# Altium integrated library Silicon Labs Clocks and Oscillators.IntLib: 678 symbols (part 8 of 45)
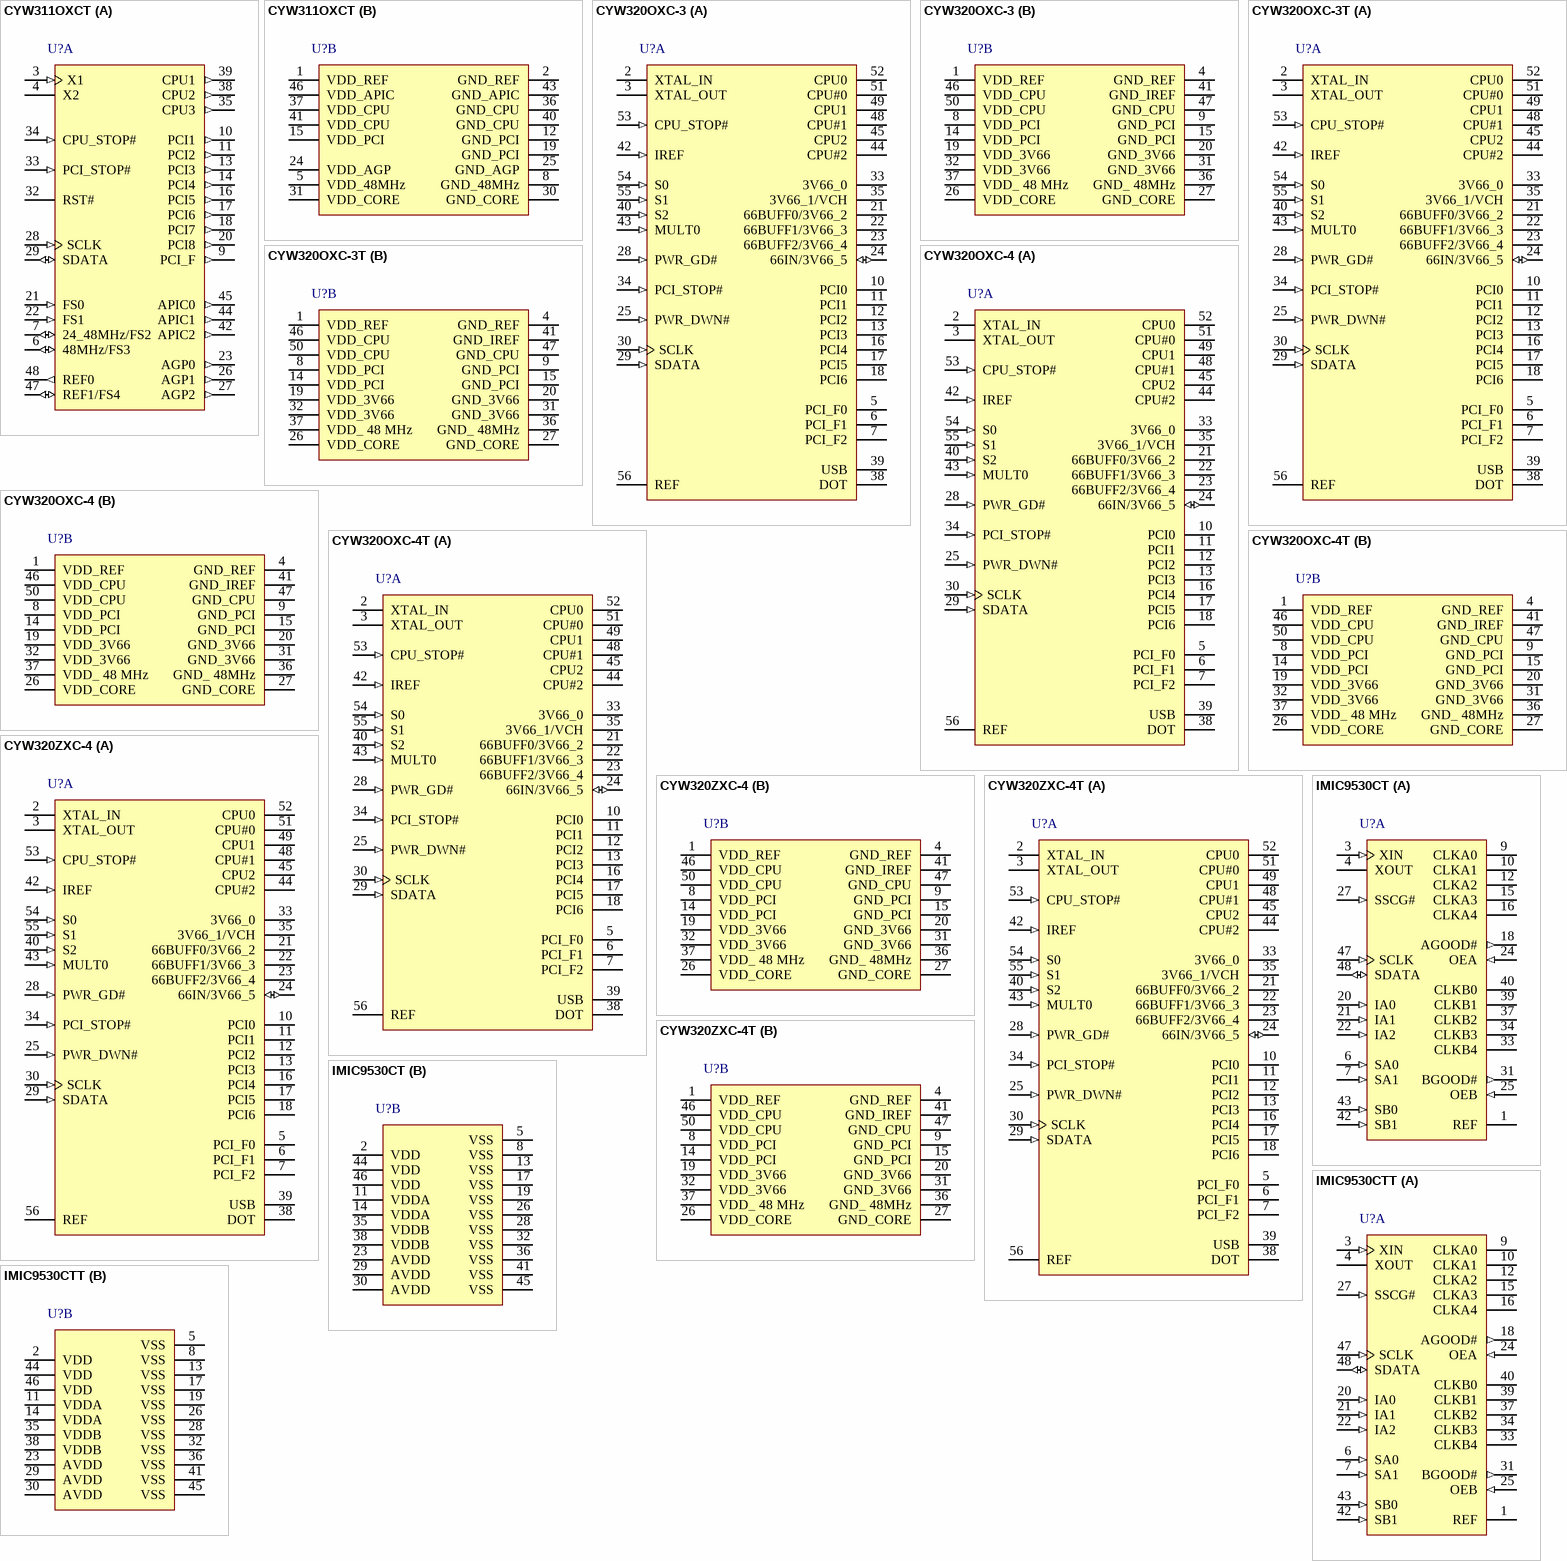
[diagram p51: symbols CYW311OXCT to IMIC9530CTT]

## CYW320OXC-4T
designator U?
Spread Spectrum Clock Synthesizer / Driver with Differential CPU Outputs, 3.3 V, 200 MHz Max Output, 0 to 70 degC, 56-pin SOP, Tape and Reel; Manufacturer: Silicon Labs; PartNumber: CYW320OXC-4T; Output Format: LVCMOS; Output Frequency (MHz): 14.318, 33, 48, 66, 100, 133, 200; Phase Jitter (RMS): > 1 ps; Reference Inputs: 1; VDD: 3.3 V; Sub-Family: Clock Generators; DatasheetVersion: Rev. *C; PackageReference: SSOP-56; PackageDescription: 56-Pin Shrink Small-Outline Package, Body 18.415 x 7.51 mm, Pitch 0.635 mm; Supplier 1: Digi-Key; Supplier Part Number 1: CYW320OXC-4T-ND; Supplier 2: Mouser; Supplier Part Number 2: 634-CYW320OXC-4T; Packing: Tape and Reel; Mounting Technology: Surface Mount; ComponentLink1Description: Manufacturer URL; ComponentLink1URL: http://www.silabs.com/; ComponentLink2Description: Datasheet; ComponentLink2URL: http://www.silabs.com/Support%20Documents/TechnicalDocs/W320-04.pdf; ComponentLink3Description: Package Specification; ComponentLink3URL: http://www.silabs.com/Support%20Documents/TechnicalDocs/W158.pdf
footprint SLAB-SSOP-56_N (SOP, 56-Leads, Body 18.5x7.6mm, Pitch 0.635mm, IPC Medium Density)
footprint SLAB-SSOP-56_L (SOP, 56-Leads, Body 18.5x7.6mm, Pitch 0.635mm, IPC High Density)
footprint SLAB-SSOP-56_M (SOP, 56-Leads, Body 18.5x7.6mm, Pitch 0.635mm, IPC Low Density)
part A pins: 2 XTAL_IN "14.318 MHz crystal input", 3 XTAL_OUT, 5 PCI_F0 (hiz) "33 MHz clocks divided down from 66Input or divided down from 3V66", 6 PCI_F1 (hiz) "33 MHz clocks divided down from 66Input or divided down from 3V66", 7 PCI_F2 (hiz) "33 MHz clocks divided down from 66Input or divided down from 3V66", 10 PCI0 (hiz) "PCI clock outputs divided down from 66Input or divided down from 3V66", 11 PCI1 (hiz) "PCI clock outputs divided down from 66Input or divided down from 3V66", 12 PCI2 (hiz) "PCI clock outputs divided down from 66Input or divided down from 3V66", 13 PCI3 (hiz) "PCI clock outputs divided down from 66Input or divided down from 3V66", 16 PCI4 (hiz) "PCI clock outputs divided down from 66Input or divided down from 3V66", 17 PCI5 (hiz) "PCI clock outputs divided down from 66Input or divided down from 3V66", 18 PCI6 (hiz) "PCI clock outputs divided down from 66Input or divided down from 3V66", 21 66BUFF0/3V66_2 (hiz), 22 66BUFF1/3V66_3 (hiz), 23 66BUFF2/3V66_4 (hiz), 24 66IN/3V66_5 (io), 25 PWR_DWN# (in) "3.3V LVTTL input for Power_Down# (active LOW)", 28 PWR_GD# (in) "3.3V LVTTL input is a level sensitive strobe used to determine when S[2:0] and MULTI0 inputs are valid and OK to be sampled (Active LOW). Once PWRGD# is sampled LOW, the status of this output will be ignored.", 29 SDATA (in) "SMBus compatible SDATA", 30 SCLK (in) "SMBus compatible Sclk", 33 3V66_0 (hiz) "3.3V 66 MHz clock output", 34 PCI_STOP# (in) "3.3V LVTTL input for PCI_STOP# (active LOW)", 35 3V66_1/VCH (hiz) "3.3V selectable through SMBus to be 66 MHz or 48 MHz", 38 DOT (hiz) "Fixed 48 MHz clock output", 39 USB (hiz) "Fixed 48 MHz clock output", 40 S2 (in) "Special 3.3V 3 level input for Mode selection", 42 IREF (in) "A precision resistor is attached to this pin which is connected to the internal current reference", 43 MULT0 (in) "3.3V LVTTL input for selecting the current multiplier for the CPU outputs", 44 CPU#2 (hiz) "Differential CPU clock outputs", 45 CPU2 (hiz) "Differential CPU clock outputs", 48 CPU#1 (hiz) "Differential CPU clock outputs", 49 CPU1 (hiz) "Differential CPU clock outputs", 51 CPU#0 (hiz) "Differential CPU clock outputs", 52 CPU0 (hiz) "Differential CPU clock outputs", 53 CPU_STOP# (in) "3.3V LVTTL input for CPU_STOP# (active LOW)", 54 S0 (in) "3.3V LVTTL inputs for CPU frequency selection", 55 S1 (in) "3.3V LVTTL inputs for CPU frequency selection", 56 REF (hiz) "3.3V 14.318 MHz clock output"
part B pins: 1 VDD_REF (power) "3.3V power supply for outputs", 4 GND_REF (power) "Ground for outputs", 8 VDD_PCI (power) "3.3V power supply for outputs", 9 GND_PCI (power) "Ground for outputs", 14 VDD_PCI (power) "3.3V power supply for outputs", 15 GND_PCI (power) "Ground for outputs", 19 VDD_3V66 (power) "3.3V power supply for outputs", 20 GND_3V66 (power) "Ground for outputs", 26 VDD_CORE (power) "3.3V power supply for PLL", 27 GND_CORE (power) "Ground for PLL", 31 GND_3V66 (power) "Ground for outputs", 32 VDD_3V66 (power) "3.3V power supply for outputs", 36 GND_ 48MHz (power) "Ground for outputs", 37 VDD_ 48 MHz (power) "3.3V power supply for 48 MHz", 41 GND_IREF (power) "Ground for outputs", 46 VDD_CPU (power) "3.3V power supply for outputs", 47 GND_CPU (power) "Ground for outputs", 50 VDD_CPU (power) "3.3V power supply for outputs"

## CYW320ZXC-4
designator U?
Spread Spectrum Clock Synthesizer / Driver with Differential CPU Outputs, 3.3 V, 200 MHz Max Output, 0 to 70 degC, 56-pin SOP; Manufacturer: Silicon Labs; PartNumber: CYW320ZXC-4; Output Format: LVCMOS; Output Frequency (MHz): 14.318, 33, 48, 66, 100, 133, 200; Reference Inputs: 1; VDD: 3.3 V; Sub-Family: Clock Generators; DatasheetVersion: Rev. *C; PackageReference: TSSOP-56; PackageDescription: 56-Pin Thin Shrink Small-Outline Package, Body 14 x 6.1 mm, Pitch 0.5 mm; Mounting Technology: Surface Mount; Code_JEDEC: MO-153; ComponentLink1Description: Manufacturer URL; ComponentLink1URL: http://www.silabs.com/; ComponentLink2Description: Datasheet; ComponentLink2URL: http://www.silabs.com/Support%20Documents/TechnicalDocs/W320-04.pdf; ComponentLink3Description: Package Specification; ComponentLink3URL: http://www.silabs.com/Support%20Documents/TechnicalDocs/CY28346-2.pdf
footprint SLAB-TSSOP-56_N (SOP, 56-Leads, Body 14.1x6.2mm, Pitch 0.5mm, IPC Medium Density)
footprint SLAB-TSSOP-56_L (SOP, 56-Leads, Body 14.1x6.2mm, Pitch 0.5mm, IPC High Density)
footprint SLAB-TSSOP-56_M (SOP, 56-Leads, Body 14.1x6.2mm, Pitch 0.5mm, IPC Low Density)
part A pins: 2 XTAL_IN "14.318 MHz crystal input", 3 XTAL_OUT, 5 PCI_F0 (hiz) "33 MHz clocks divided down from 66Input or divided down from 3V66", 6 PCI_F1 (hiz) "33 MHz clocks divided down from 66Input or divided down from 3V66", 7 PCI_F2 (hiz) "33 MHz clocks divided down from 66Input or divided down from 3V66", 10 PCI0 (hiz) "PCI clock outputs divided down from 66Input or divided down from 3V66", 11 PCI1 (hiz) "PCI clock outputs divided down from 66Input or divided down from 3V66", 12 PCI2 (hiz) "PCI clock outputs divided down from 66Input or divided down from 3V66", 13 PCI3 (hiz) "PCI clock outputs divided down from 66Input or divided down from 3V66", 16 PCI4 (hiz) "PCI clock outputs divided down from 66Input or divided down from 3V66", 17 PCI5 (hiz) "PCI clock outputs divided down from 66Input or divided down from 3V66", 18 PCI6 (hiz) "PCI clock outputs divided down from 66Input or divided down from 3V66", 21 66BUFF0/3V66_2 (hiz), 22 66BUFF1/3V66_3 (hiz), 23 66BUFF2/3V66_4 (hiz), 24 66IN/3V66_5 (io), 25 PWR_DWN# (in) "3.3V LVTTL input for Power_Down# (active LOW)", 28 PWR_GD# (in) "3.3V LVTTL input is a level sensitive strobe used to determine when S[2:0] and MULTI0 inputs are valid and OK to be sampled (Active LOW). Once PWRGD# is sampled LOW, the status of this output will be ignored.", 29 SDATA (in) "SMBus compatible SDATA", 30 SCLK (in) "SMBus compatible Sclk", 33 3V66_0 (hiz) "3.3V 66 MHz clock output", 34 PCI_STOP# (in) "3.3V LVTTL input for PCI_STOP# (active LOW)", 35 3V66_1/VCH (hiz) "3.3V selectable through SMBus to be 66 MHz or 48 MHz", 38 DOT (hiz) "Fixed 48 MHz clock output", 39 USB (hiz) "Fixed 48 MHz clock output", 40 S2 (in) "Special 3.3V 3 level input for Mode selection", 42 IREF (in) "A precision resistor is attached to this pin which is connected to the internal current reference", 43 MULT0 (in) "3.3V LVTTL input for selecting the current multiplier for the CPU outputs", 44 CPU#2 (hiz) "Differential CPU clock outputs", 45 CPU2 (hiz) "Differential CPU clock outputs", 48 CPU#1 (hiz) "Differential CPU clock outputs", 49 CPU1 (hiz) "Differential CPU clock outputs", 51 CPU#0 (hiz) "Differential CPU clock outputs", 52 CPU0 (hiz) "Differential CPU clock outputs", 53 CPU_STOP# (in) "3.3V LVTTL input for CPU_STOP# (active LOW)", 54 S0 (in) "3.3V LVTTL inputs for CPU frequency selection", 55 S1 (in) "3.3V LVTTL inputs for CPU frequency selection", 56 REF (hiz) "3.3V 14.318 MHz clock output"
part B pins: 1 VDD_REF (power) "3.3V power supply for outputs", 4 GND_REF (power) "Ground for outputs", 8 VDD_PCI (power) "3.3V power supply for outputs", 9 GND_PCI (power) "Ground for outputs", 14 VDD_PCI (power) "3.3V power supply for outputs", 15 GND_PCI (power) "Ground for outputs", 19 VDD_3V66 (power) "3.3V power supply for outputs", 20 GND_3V66 (power) "Ground for outputs", 26 VDD_CORE (power) "3.3V power supply for PLL", 27 GND_CORE (power) "Ground for PLL", 31 GND_3V66 (power) "Ground for outputs", 32 VDD_3V66 (power) "3.3V power supply for outputs", 36 GND_ 48MHz (power) "Ground for outputs", 37 VDD_ 48 MHz (power) "3.3V power supply for 48 MHz", 41 GND_IREF (power) "Ground for outputs", 46 VDD_CPU (power) "3.3V power supply for outputs", 47 GND_CPU (power) "Ground for outputs", 50 VDD_CPU (power) "3.3V power supply for outputs"

## CYW320ZXC-4T
designator U?
Spread Spectrum Clock Synthesizer / Driver with Differential CPU Outputs, 3.3 V, 200 MHz Max Output, 0 to 70 degC, 56-pin SOP, Tape and Reel; Manufacturer: Silicon Labs; PartNumber: CYW320ZXC-4T; Output Format: LVCMOS; Output Frequency (MHz): 14.318, 33, 48, 66, 100, 133, 200; Phase Jitter (RMS): > 1 ps; Reference Inputs: 1; VDD: 3.3 V; Sub-Family: Clock Generators; DatasheetVersion: Rev. *C; PackageReference: TSSOP-56; PackageDescription: 56-Pin Thin Shrink Small-Outline Package, Body 14 x 6.1 mm, Pitch 0.5 mm; Packing: Tape and Reel; Mounting Technology: Surface Mount; Code_JEDEC: MO-153; ComponentLink1Description: Manufacturer URL; ComponentLink1URL: http://www.silabs.com/; ComponentLink2Description: Datasheet; ComponentLink2URL: http://www.silabs.com/Support%20Documents/TechnicalDocs/W320-04.pdf; ComponentLink3Description: Package Specification; ComponentLink3URL: http://www.silabs.com/Support%20Documents/TechnicalDocs/CY28346-2.pdf
footprint SLAB-TSSOP-56_N (SOP, 56-Leads, Body 14.1x6.2mm, Pitch 0.5mm, IPC Medium Density)
footprint SLAB-TSSOP-56_L (SOP, 56-Leads, Body 14.1x6.2mm, Pitch 0.5mm, IPC High Density)
footprint SLAB-TSSOP-56_M (SOP, 56-Leads, Body 14.1x6.2mm, Pitch 0.5mm, IPC Low Density)
part A pins: 2 XTAL_IN "14.318 MHz crystal input", 3 XTAL_OUT, 5 PCI_F0 (hiz) "33 MHz clocks divided down from 66Input or divided down from 3V66", 6 PCI_F1 (hiz) "33 MHz clocks divided down from 66Input or divided down from 3V66", 7 PCI_F2 (hiz) "33 MHz clocks divided down from 66Input or divided down from 3V66", 10 PCI0 (hiz) "PCI clock outputs divided down from 66Input or divided down from 3V66", 11 PCI1 (hiz) "PCI clock outputs divided down from 66Input or divided down from 3V66", 12 PCI2 (hiz) "PCI clock outputs divided down from 66Input or divided down from 3V66", 13 PCI3 (hiz) "PCI clock outputs divided down from 66Input or divided down from 3V66", 16 PCI4 (hiz) "PCI clock outputs divided down from 66Input or divided down from 3V66", 17 PCI5 (hiz) "PCI clock outputs divided down from 66Input or divided down from 3V66", 18 PCI6 (hiz) "PCI clock outputs divided down from 66Input or divided down from 3V66", 21 66BUFF0/3V66_2 (hiz), 22 66BUFF1/3V66_3 (hiz), 23 66BUFF2/3V66_4 (hiz), 24 66IN/3V66_5 (io), 25 PWR_DWN# (in) "3.3V LVTTL input for Power_Down# (active LOW)", 28 PWR_GD# (in) "3.3V LVTTL input is a level sensitive strobe used to determine when S[2:0] and MULTI0 inputs are valid and OK to be sampled (Active LOW). Once PWRGD# is sampled LOW, the status of this output will be ignored.", 29 SDATA (in) "SMBus compatible SDATA", 30 SCLK (in) "SMBus compatible Sclk", 33 3V66_0 (hiz) "3.3V 66 MHz clock output", 34 PCI_STOP# (in) "3.3V LVTTL input for PCI_STOP# (active LOW)", 35 3V66_1/VCH (hiz) "3.3V selectable through SMBus to be 66 MHz or 48 MHz", 38 DOT (hiz) "Fixed 48 MHz clock output", 39 USB (hiz) "Fixed 48 MHz clock output", 40 S2 (in) "Special 3.3V 3 level input for Mode selection", 42 IREF (in) "A precision resistor is attached to this pin which is connected to the internal current reference", 43 MULT0 (in) "3.3V LVTTL input for selecting the current multiplier for the CPU outputs", 44 CPU#2 (hiz) "Differential CPU clock outputs", 45 CPU2 (hiz) "Differential CPU clock outputs", 48 CPU#1 (hiz) "Differential CPU clock outputs", 49 CPU1 (hiz) "Differential CPU clock outputs", 51 CPU#0 (hiz) "Differential CPU clock outputs", 52 CPU0 (hiz) "Differential CPU clock outputs", 53 CPU_STOP# (in) "3.3V LVTTL input for CPU_STOP# (active LOW)", 54 S0 (in) "3.3V LVTTL inputs for CPU frequency selection", 55 S1 (in) "3.3V LVTTL inputs for CPU frequency selection", 56 REF (hiz) "3.3V 14.318 MHz clock output"
part B pins: 1 VDD_REF (power) "3.3V power supply for outputs", 4 GND_REF (power) "Ground for outputs", 8 VDD_PCI (power) "3.3V power supply for outputs", 9 GND_PCI (power) "Ground for outputs", 14 VDD_PCI (power) "3.3V power supply for outputs", 15 GND_PCI (power) "Ground for outputs", 19 VDD_3V66 (power) "3.3V power supply for outputs", 20 GND_3V66 (power) "Ground for outputs", 26 VDD_CORE (power) "3.3V power supply for PLL", 27 GND_CORE (power) "Ground for PLL", 31 GND_3V66 (power) "Ground for outputs", 32 VDD_3V66 (power) "3.3V power supply for outputs", 36 GND_ 48MHz (power) "Ground for outputs", 37 VDD_ 48 MHz (power) "3.3V power supply for 48 MHz", 41 GND_IREF (power) "Ground for outputs", 46 VDD_CPU (power) "3.3V power supply for outputs", 47 GND_CPU (power) "Ground for outputs", 50 VDD_CPU (power) "3.3V power supply for outputs"

## IMIC9530CT
designator U?
PCIX I/O System Clock Generator with EMI Control Features, 3.3 V, 25 to 133.3 MHz Output, 0 to 70 degC, 48-pin SOP; Manufacturer: Silicon Labs; PartNumber: IMIC9530CT; Output Format: LVCMOS; Reference Inputs: 1; VDD: 3.3 V; Sub-Family: Clock Generators; DatasheetVersion: Rev. *C; PackageReference: TSSOP-48; PackageDescription: 48-Pin Thin Shrink Small-Outline Package, Body 12.5 x 6.1 mm, Pitch 0.5 mm; Output Frequency (MHz): 25 to 133.3; Mounting Technology: Surface Mount; Code_JEDEC: MO-153; ComponentLink1Description: Manufacturer URL; ComponentLink1URL: http://www.silabs.com/; ComponentLink2Description: Datasheet; ComponentLink2URL: http://www.silabs.com/Support%20Documents/TechnicalDocs/C9530.pdf; ComponentLink3Description: Package Specification; ComponentLink3URL: http://www.silabs.com/Support%20Documents/TechnicalDocs/C9530.pdf
footprint SLAB-TSSOP-48_N (SOP, 48-Leads, Body 12.6x6.2mm, Pitch 0.5mm, IPC Medium Density)
footprint SLAB-TSSOP-48_L (SOP, 48-Leads, Body 12.6x6.2mm, Pitch 0.5mm, IPC High Density)
footprint SLAB-TSSOP-48_M (SOP, 48-Leads, Body 12.6x6.2mm, Pitch 0.5mm, IPC Low Density)
part A pins: 1 REF (hiz) "Buffered inverted outputs of the signal applied at Xin, typically 33.33 or 25.0 MHz", 3 XIN (in) "Crystal Buffer input pin. Connects to a crystal, or an external clock source. Serves as input clock TCLK, in Test mode.", 4 XOUT "Crystal Buffer output pin. Connects to a crystal only. When a Can Oscillator is used or in Test mode, this pin is kept unconnected.", 6 SA0 (in) "Clock Bank A selection bits. These control the clock frequency that will be present on the outputs of the A bank of buffers. See Table 1 for frequency codes and selection values.", 7 SA1 (in) "Clock Bank A selection bits. These control the clock frequency that will be present on the outputs of the A bank of buffers. See Table 1 for frequency codes and selection values.", 9 CLKA0 (hiz) "A bank of five XINx1, XINx2, XINx3 and XINx4 output clocks.", 10 CLKA1 (hiz) "A bank of five XINx1, XINx2, XINx3 and XINx4 output clocks.", 12 CLKA2 (hiz) "A bank of five XINx1, XINx2, XINx3 and XINx4 output clocks.", 15 CLKA3 (hiz) "A bank of five XINx1, XINx2, XINx3 and XINx4 output clocks.", 16 CLKA4 (hiz) "A bank of five XINx1, XINx2, XINx3 and XINx4 output clocks.", 18 AGOOD# (out) "When this output signal is a logic low level, it indicates that the output clocks of the A bank are locked to the input reference clock. This output is latched.", 20 IA0 (in), 21 IA1 (in), 22 IA2 (in), 24 OEA (in) "Output Enable for clock bank A. Causes the CLKA output clocks to be in a three-state condition when driven to a logic low level.", 25 OEB (in) "Output Enable for clock bank B. Causes the CLKB output clocks to be in a three-state condition when driven to a logic low level.", 27 SSCG# (in) "Enables Spread Spectrum clock modulation when at a logic low level, see Spread Spectrum Clocking on page 6.", 31 BGOOD# (out) "When this output signal is at a logic low level, it indicates that the output clocks of the B bank are locked to the input reference clock. This output is latched.", 33 CLKB4 (hiz) "A bank of five XINx1, XINx2, XINx3 and XINx4 output clocks.", 34 CLKB3 (hiz) "A bank of five XINx1, XINx2, XINx3 and XINx4 output clocks.", 37 CLKB2 (hiz) "A bank of five XINx1, XINx2, XINx3 and XINx4 output clocks.", 39 CLKB1 (hiz) "A bank of five XINx1, XINx2, XINx3 and XINx4 output clocks.", 40 CLKB0 (hiz) "A bank of five XINx1, XINx2, XINx3 and XINx4 output clocks.", 42 SB1 (in), 43 SB0 (in), 47 SCLK (in) "Clock for the internal SMBus circuitry.", 48 SDATA (io) "Data for the internal SMBus circuitry."
part B pins: 2 VDD (power) "Power supply for internal Core logic.", 5 VSS (power) "Ground pins for the device.", 8 VSS (power) "Ground pins for the device.", 11 VDDA (power) "3.3V common power supply pin for Bank A PCI clocks CLKA.", 13 VSS (power) "Ground pins for the device.", 14 VDDA (power) "3.3V common power supply pin for Bank A PCI clocks CLKA.", 17 VSS (power) "Ground pins for the device.", 19 VSS (power) "Ground pins for the device.", 23 AVDD (power) "Power for internal analog circuitry. This supply should have a separately decoupled current source from VDD.", 26 VSS (power) "Ground pins for the device.", 28 VSS (power) "Ground pins for the device.", 29 AVDD (power) "Power for internal analog circuitry. This supply should have a separately decoupled current source from VDD.", 30 AVDD (power) "Power for internal analog circuitry. This supply should have a separately decoupled current source from VDD.", 32 VSS (power) "Ground pins for the device.", 35 VDDB (power) "3.3V common power supply pin for Bank B PCI clocks CLKB.", 36 VSS (power) "Ground pins for the device.", 38 VDDB (power) "3.3V common power supply pin for Bank B PCI clocks CLKB.", 41 VSS (power) "Ground pins for the device.", 44 VDD (power) "Power supply for internal Core logic.", 45 VSS (power) "Ground pins for the device.", 46 VDD (power) "Power supply for internal Core logic."

## IMIC9530CTT
designator U?
PCIX I/O System Clock Generator with EMI Control Features, 3.3 V, 25 to 133.3 MHz Output, 0 to 70 degC, 48-pin SOP, Tape and Reel; Manufacturer: Silicon Labs; PartNumber: IMIC9530CTT; Output Format: LVCMOS; Phase Jitter (RMS): > 1 ps; Reference Inputs: 1; VDD: 3.3 V; Sub-Family: Clock Generators; DatasheetVersion: Rev. *C; PackageReference: TSSOP-48; PackageDescription: 48-Pin Thin Shrink Small-Outline Package, Body 12.5 x 6.1 mm, Pitch 0.5 mm; Output Frequency (MHz): 25 to 133.3; Packing: Tape and Reel; Mounting Technology: Surface Mount; Code_JEDEC: MO-153; ComponentLink1Description: Manufacturer URL; ComponentLink1URL: http://www.silabs.com/; ComponentLink2Description: Datasheet; ComponentLink2URL: http://www.silabs.com/Support%20Documents/TechnicalDocs/C9530.pdf; ComponentLink3Description: Package Specification; ComponentLink3URL: http://www.silabs.com/Support%20Documents/TechnicalDocs/C9530.pdf
footprint SLAB-TSSOP-48_N (SOP, 48-Leads, Body 12.6x6.2mm, Pitch 0.5mm, IPC Medium Density)
footprint SLAB-TSSOP-48_L (SOP, 48-Leads, Body 12.6x6.2mm, Pitch 0.5mm, IPC High Density)
footprint SLAB-TSSOP-48_M (SOP, 48-Leads, Body 12.6x6.2mm, Pitch 0.5mm, IPC Low Density)
part A pins: 1 REF (hiz) "Buffered inverted outputs of the signal applied at Xin, typically 33.33 or 25.0 MHz", 3 XIN (in) "Crystal Buffer input pin. Connects to a crystal, or an external clock source. Serves as input clock TCLK, in Test mode.", 4 XOUT "Crystal Buffer output pin. Connects to a crystal only. When a Can Oscillator is used or in Test mode, this pin is kept unconnected.", 6 SA0 (in) "Clock Bank A selection bits. These control the clock frequency that will be present on the outputs of the A bank of buffers. See Table 1 for frequency codes and selection values.", 7 SA1 (in) "Clock Bank A selection bits. These control the clock frequency that will be present on the outputs of the A bank of buffers. See Table 1 for frequency codes and selection values.", 9 CLKA0 (hiz) "A bank of five XINx1, XINx2, XINx3 and XINx4 output clocks.", 10 CLKA1 (hiz) "A bank of five XINx1, XINx2, XINx3 and XINx4 output clocks.", 12 CLKA2 (hiz) "A bank of five XINx1, XINx2, XINx3 and XINx4 output clocks.", 15 CLKA3 (hiz) "A bank of five XINx1, XINx2, XINx3 and XINx4 output clocks.", 16 CLKA4 (hiz) "A bank of five XINx1, XINx2, XINx3 and XINx4 output clocks.", 18 AGOOD# (out) "When this output signal is a logic low level, it indicates that the output clocks of the A bank are locked to the input reference clock. This output is latched.", 20 IA0 (in), 21 IA1 (in), 22 IA2 (in), 24 OEA (in) "Output Enable for clock bank A. Causes the CLKA output clocks to be in a three-state condition when driven to a logic low level.", 25 OEB (in) "Output Enable for clock bank B. Causes the CLKB output clocks to be in a three-state condition when driven to a logic low level.", 27 SSCG# (in) "Enables Spread Spectrum clock modulation when at a logic low level, see Spread Spectrum Clocking on page 6.", 31 BGOOD# (out) "When this output signal is at a logic low level, it indicates that the output clocks of the B bank are locked to the input reference clock. This output is latched.", 33 CLKB4 (hiz) "A bank of five XINx1, XINx2, XINx3 and XINx4 output clocks.", 34 CLKB3 (hiz) "A bank of five XINx1, XINx2, XINx3 and XINx4 output clocks.", 37 CLKB2 (hiz) "A bank of five XINx1, XINx2, XINx3 and XINx4 output clocks.", 39 CLKB1 (hiz) "A bank of five XINx1, XINx2, XINx3 and XINx4 output clocks.", 40 CLKB0 (hiz) "A bank of five XINx1, XINx2, XINx3 and XINx4 output clocks.", 42 SB1 (in), 43 SB0 (in), 47 SCLK (in) "Clock for the internal SMBus circuitry.", 48 SDATA (io) "Data for the internal SMBus circuitry."
part B pins: 2 VDD (power) "Power supply for internal Core logic.", 5 VSS (power) "Ground pins for the device.", 8 VSS (power) "Ground pins for the device.", 11 VDDA (power) "3.3V common power supply pin for Bank A PCI clocks CLKA.", 13 VSS (power) "Ground pins for the device.", 14 VDDA (power) "3.3V common power supply pin for Bank A PCI clocks CLKA.", 17 VSS (power) "Ground pins for the device.", 19 VSS (power) "Ground pins for the device.", 23 AVDD (power) "Power for internal analog circuitry. This supply should have a separately decoupled current source from VDD.", 26 VSS (power) "Ground pins for the device.", 28 VSS (power) "Ground pins for the device.", 29 AVDD (power) "Power for internal analog circuitry. This supply should have a separately decoupled current source from VDD.", 30 AVDD (power) "Power for internal analog circuitry. This supply should have a separately decoupled current source from VDD.", 32 VSS (power) "Ground pins for the device.", 35 VDDB (power) "3.3V common power supply pin for Bank B PCI clocks CLKB.", 36 VSS (power) "Ground pins for the device.", 38 VDDB (power) "3.3V common power supply pin for Bank B PCI clocks CLKB.", 41 VSS (power) "Ground pins for the device.", 44 VDD (power) "Power supply for internal Core logic.", 45 VSS (power) "Ground pins for the device.", 46 VDD (power) "Power supply for internal Core logic."

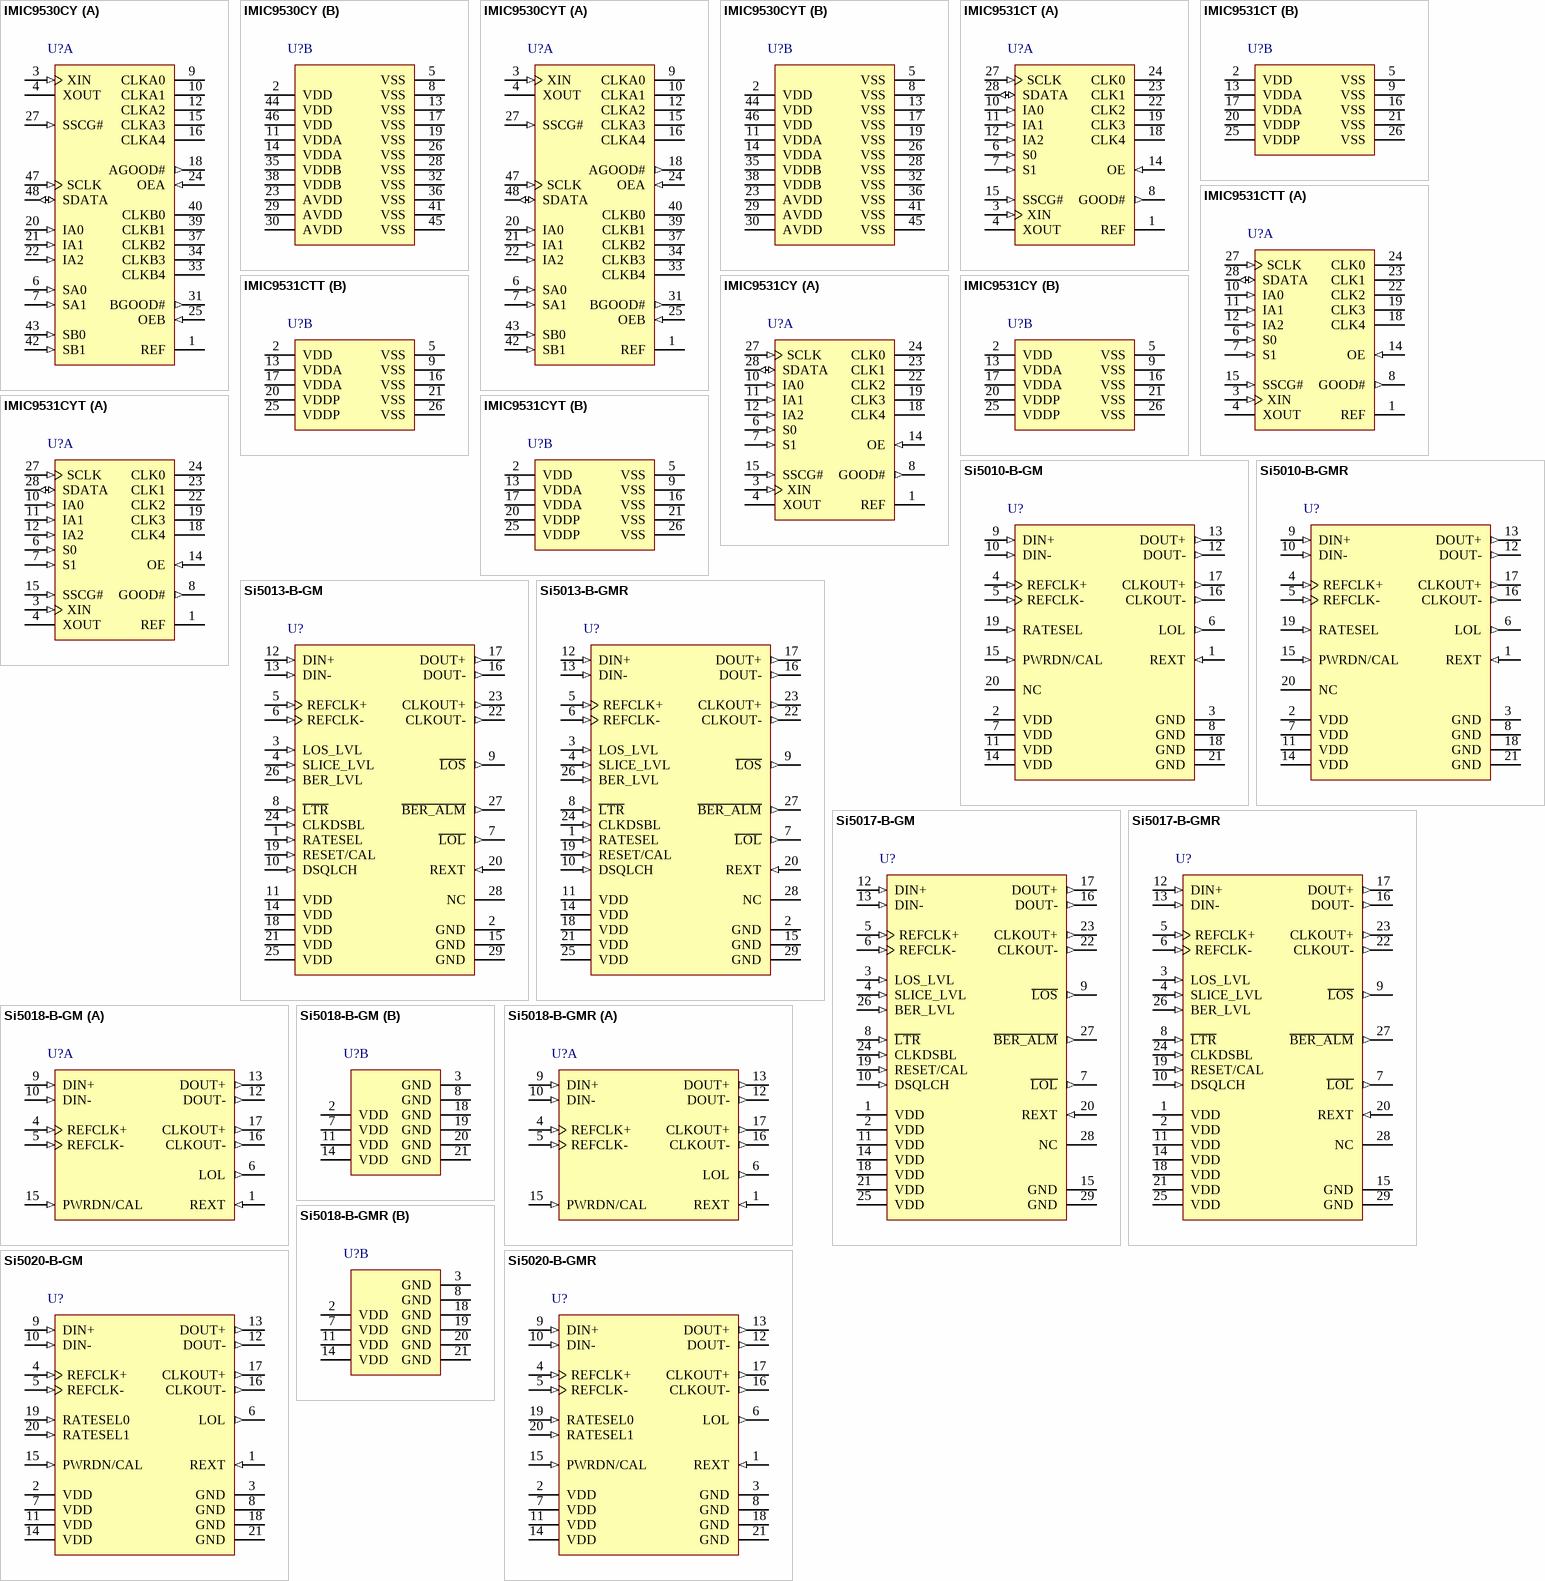
[diagram p8: symbols IMIC9530CY to Si5020-B-GMR]

## IMIC9530CY
designator U?
PCIX I/O System Clock Generator with EMI Control Features, 3.3 V, 25 to 133.3 MHz Output, 0 to 70 degC, 48-pin SOP; Manufacturer: Silicon Labs; PartNumber: IMIC9530CY; Output Format: LVCMOS; Reference Inputs: 1; VDD: 3.3 V; Sub-Family: Clock Generators; DatasheetVersion: Rev. *C; PackageReference: SSOP-48; PackageDescription: 48-Pin Shrink Small-Outline Package, Body 15.875 x 7.51 mm, Pitch 0.635 mm; Output Frequency (MHz): 25 to 133.3; Mounting Technology: Surface Mount; ComponentLink1Description: Manufacturer URL; ComponentLink1URL: http://www.silabs.com/; ComponentLink2Description: Datasheet; ComponentLink2URL: http://www.silabs.com/Support%20Documents/TechnicalDocs/C9530.pdf; ComponentLink3Description: Package Specification; ComponentLink3URL: http://www.silabs.com/Support%20Documents/TechnicalDocs/W255.pdf
footprint SLAB-SSOP-48_N (SOP, 48-Leads, Body 16x7.6mm, Pitch 0.635mm, IPC Medium Density)
footprint SLAB-SSOP-48_L (SOP, 48-Leads, Body 16x7.6mm, Pitch 0.635mm, IPC High Density)
footprint SLAB-SSOP-48_M (SOP, 48-Leads, Body 16x7.6mm, Pitch 0.635mm, IPC Low Density)
part A pins: 1 REF (hiz) "Buffered inverted outputs of the signal applied at Xin, typically 33.33 or 25.0 MHz", 3 XIN (in) "Crystal Buffer input pin. Connects to a crystal, or an external clock source. Serves as input clock TCLK, in Test mode.", 4 XOUT "Crystal Buffer output pin. Connects to a crystal only. When a Can Oscillator is used or in Test mode, this pin is kept unconnected.", 6 SA0 (in) "Clock Bank A selection bits. These control the clock frequency that will be present on the outputs of the A bank of buffers. See Table 1 for frequency codes and selection values.", 7 SA1 (in) "Clock Bank A selection bits. These control the clock frequency that will be present on the outputs of the A bank of buffers. See Table 1 for frequency codes and selection values.", 9 CLKA0 (hiz) "A bank of five XINx1, XINx2, XINx3 and XINx4 output clocks.", 10 CLKA1 (hiz) "A bank of five XINx1, XINx2, XINx3 and XINx4 output clocks.", 12 CLKA2 (hiz) "A bank of five XINx1, XINx2, XINx3 and XINx4 output clocks.", 15 CLKA3 (hiz) "A bank of five XINx1, XINx2, XINx3 and XINx4 output clocks.", 16 CLKA4 (hiz) "A bank of five XINx1, XINx2, XINx3 and XINx4 output clocks.", 18 AGOOD# (out) "When this output signal is a logic low level, it indicates that the output clocks of the A bank are locked to the input reference clock. This output is latched.", 20 IA0 (in), 21 IA1 (in), 22 IA2 (in), 24 OEA (in) "Output Enable for clock bank A. Causes the CLKA output clocks to be in a three-state condition when driven to a logic low level.", 25 OEB (in) "Output Enable for clock bank B. Causes the CLKB output clocks to be in a three-state condition when driven to a logic low level.", 27 SSCG# (in) "Enables Spread Spectrum clock modulation when at a logic low level, see Spread Spectrum Clocking on page 6.", 31 BGOOD# (out) "When this output signal is at a logic low level, it indicates that the output clocks of the B bank are locked to the input reference clock. This output is latched.", 33 CLKB4 (hiz) "A bank of five XINx1, XINx2, XINx3 and XINx4 output clocks.", 34 CLKB3 (hiz) "A bank of five XINx1, XINx2, XINx3 and XINx4 output clocks.", 37 CLKB2 (hiz) "A bank of five XINx1, XINx2, XINx3 and XINx4 output clocks.", 39 CLKB1 (hiz) "A bank of five XINx1, XINx2, XINx3 and XINx4 output clocks.", 40 CLKB0 (hiz) "A bank of five XINx1, XINx2, XINx3 and XINx4 output clocks.", 42 SB1 (in), 43 SB0 (in), 47 SCLK (in) "Clock for the internal SMBus circuitry.", 48 SDATA (io) "Data for the internal SMBus circuitry."
part B pins: 2 VDD (power) "Power supply for internal Core logic.", 5 VSS (power) "Ground pins for the device.", 8 VSS (power) "Ground pins for the device.", 11 VDDA (power) "3.3V common power supply pin for Bank A PCI clocks CLKA.", 13 VSS (power) "Ground pins for the device.", 14 VDDA (power) "3.3V common power supply pin for Bank A PCI clocks CLKA.", 17 VSS (power) "Ground pins for the device.", 19 VSS (power) "Ground pins for the device.", 23 AVDD (power) "Power for internal analog circuitry. This supply should have a separately decoupled current source from VDD.", 26 VSS (power) "Ground pins for the device.", 28 VSS (power) "Ground pins for the device.", 29 AVDD (power) "Power for internal analog circuitry. This supply should have a separately decoupled current source from VDD.", 30 AVDD (power) "Power for internal analog circuitry. This supply should have a separately decoupled current source from VDD.", 32 VSS (power) "Ground pins for the device.", 35 VDDB (power) "3.3V common power supply pin for Bank B PCI clocks CLKB.", 36 VSS (power) "Ground pins for the device.", 38 VDDB (power) "3.3V common power supply pin for Bank B PCI clocks CLKB.", 41 VSS (power) "Ground pins for the device.", 44 VDD (power) "Power supply for internal Core logic.", 45 VSS (power) "Ground pins for the device.", 46 VDD (power) "Power supply for internal Core logic."

## IMIC9530CYT
designator U?
PCIX I/O System Clock Generator with EMI Control Features, 3.3 V, 25 to 133.3 MHz Output, 0 to 70 degC, 48-pin SOP, Tape and Reel; Manufacturer: Silicon Labs; PartNumber: IMIC9530CYT; Output Format: LVCMOS; Phase Jitter (RMS): > 1 ps; Reference Inputs: 1; VDD: 3.3 V; Sub-Family: Clock Generators; DatasheetVersion: Rev. *C; PackageReference: SSOP-48; PackageDescription: 48-Pin Shrink Small-Outline Package, Body 15.875 x 7.51 mm, Pitch 0.635 mm; Output Frequency (MHz): 25 to 133.3; Packing: Tape and Reel; Mounting Technology: Surface Mount; ComponentLink1Description: Manufacturer URL; ComponentLink1URL: http://www.silabs.com/; ComponentLink2Description: Datasheet; ComponentLink2URL: http://www.silabs.com/Support%20Documents/TechnicalDocs/C9530.pdf; ComponentLink3Description: Package Specification; ComponentLink3URL: http://www.silabs.com/Support%20Documents/TechnicalDocs/W255.pdf
footprint SLAB-SSOP-48_N (SOP, 48-Leads, Body 16x7.6mm, Pitch 0.635mm, IPC Medium Density)
footprint SLAB-SSOP-48_L (SOP, 48-Leads, Body 16x7.6mm, Pitch 0.635mm, IPC High Density)
footprint SLAB-SSOP-48_M (SOP, 48-Leads, Body 16x7.6mm, Pitch 0.635mm, IPC Low Density)
part A pins: 1 REF (hiz) "Buffered inverted outputs of the signal applied at Xin, typically 33.33 or 25.0 MHz", 3 XIN (in) "Crystal Buffer input pin. Connects to a crystal, or an external clock source. Serves as input clock TCLK, in Test mode.", 4 XOUT "Crystal Buffer output pin. Connects to a crystal only. When a Can Oscillator is used or in Test mode, this pin is kept unconnected.", 6 SA0 (in) "Clock Bank A selection bits. These control the clock frequency that will be present on the outputs of the A bank of buffers. See Table 1 for frequency codes and selection values.", 7 SA1 (in) "Clock Bank A selection bits. These control the clock frequency that will be present on the outputs of the A bank of buffers. See Table 1 for frequency codes and selection values.", 9 CLKA0 (hiz) "A bank of five XINx1, XINx2, XINx3 and XINx4 output clocks.", 10 CLKA1 (hiz) "A bank of five XINx1, XINx2, XINx3 and XINx4 output clocks.", 12 CLKA2 (hiz) "A bank of five XINx1, XINx2, XINx3 and XINx4 output clocks.", 15 CLKA3 (hiz) "A bank of five XINx1, XINx2, XINx3 and XINx4 output clocks.", 16 CLKA4 (hiz) "A bank of five XINx1, XINx2, XINx3 and XINx4 output clocks.", 18 AGOOD# (out) "When this output signal is a logic low level, it indicates that the output clocks of the A bank are locked to the input reference clock. This output is latched.", 20 IA0 (in), 21 IA1 (in), 22 IA2 (in), 24 OEA (in) "Output Enable for clock bank A. Causes the CLKA output clocks to be in a three-state condition when driven to a logic low level.", 25 OEB (in) "Output Enable for clock bank B. Causes the CLKB output clocks to be in a three-state condition when driven to a logic low level.", 27 SSCG# (in) "Enables Spread Spectrum clock modulation when at a logic low level, see Spread Spectrum Clocking on page 6.", 31 BGOOD# (out) "When this output signal is at a logic low level, it indicates that the output clocks of the B bank are locked to the input reference clock. This output is latched.", 33 CLKB4 (hiz) "A bank of five XINx1, XINx2, XINx3 and XINx4 output clocks.", 34 CLKB3 (hiz) "A bank of five XINx1, XINx2, XINx3 and XINx4 output clocks.", 37 CLKB2 (hiz) "A bank of five XINx1, XINx2, XINx3 and XINx4 output clocks.", 39 CLKB1 (hiz) "A bank of five XINx1, XINx2, XINx3 and XINx4 output clocks.", 40 CLKB0 (hiz) "A bank of five XINx1, XINx2, XINx3 and XINx4 output clocks.", 42 SB1 (in), 43 SB0 (in), 47 SCLK (in) "Clock for the internal SMBus circuitry.", 48 SDATA (io) "Data for the internal SMBus circuitry."
part B pins: 2 VDD (power) "Power supply for internal Core logic.", 5 VSS (power) "Ground pins for the device.", 8 VSS (power) "Ground pins for the device.", 11 VDDA (power) "3.3V common power supply pin for Bank A PCI clocks CLKA.", 13 VSS (power) "Ground pins for the device.", 14 VDDA (power) "3.3V common power supply pin for Bank A PCI clocks CLKA.", 17 VSS (power) "Ground pins for the device.", 19 VSS (power) "Ground pins for the device.", 23 AVDD (power) "Power for internal analog circuitry. This supply should have a separately decoupled current source from VDD.", 26 VSS (power) "Ground pins for the device.", 28 VSS (power) "Ground pins for the device.", 29 AVDD (power) "Power for internal analog circuitry. This supply should have a separately decoupled current source from VDD.", 30 AVDD (power) "Power for internal analog circuitry. This supply should have a separately decoupled current source from VDD.", 32 VSS (power) "Ground pins for the device.", 35 VDDB (power) "3.3V common power supply pin for Bank B PCI clocks CLKB.", 36 VSS (power) "Ground pins for the device.", 38 VDDB (power) "3.3V common power supply pin for Bank B PCI clocks CLKB.", 41 VSS (power) "Ground pins for the device.", 44 VDD (power) "Power supply for internal Core logic.", 45 VSS (power) "Ground pins for the device.", 46 VDD (power) "Power supply for internal Core logic."

## IMIC9531CT
designator U?
PCIX I/O System Clock Generator with EMI Control Features, 3.3 V, 25 to 133.3 MHz Output, 0 to 70 degC, 28-pin SOP; Manufacturer: Silicon Labs; PartNumber: IMIC9531CT; Output Format: LVCMOS; Reference Inputs: 1; VDD: 3.3 V; Sub-Family: Clock Generators; DatasheetVersion: Rev. *E; PackageReference: TSSOP-28; PackageDescription: 28-Pin Thin Shrink Small-Outline Package, Body 9.7 x 4.4 mm, Pitch 0.65 mm; Output Frequency (MHz): 25 to 133.3; Mounting Technology: Surface Mount; Code_JEDEC: MO-153; ComponentLink1Description: Manufacturer URL; ComponentLink1URL: http://www.silabs.com/; ComponentLink2Description: Datasheet; ComponentLink2URL: http://www.silabs.com/Support%20Documents/TechnicalDocs/C9531.pdf; ComponentLink3Description: Package Specification; ComponentLink3URL: http://www.silabs.com/Support%20Documents/TechnicalDocs/CY2SSTV855.pdf
footprint SLAB-TSSOP-28_N (SOP, 28-Leads, Body 9.8x4.5mm, Pitch 0.65mm, IPC Medium Density)
footprint SLAB-TSSOP-28_L (SOP, 28-Leads, Body 9.8x4.5mm, Pitch 0.65mm, IPC High Density)
footprint SLAB-TSSOP-28_M (SOP, 28-Leads, Body 9.8x4.5mm, Pitch 0.65mm, IPC Low Density)
part A pins: 1 REF (hiz) "Buffered inverted outputs of the signal applied at Xin, typically 33.33 or 25.0 MHz.", 3 XIN (in) "Crystal Buffer Input Pin. Connects to a crystal, or an external clock source. Serves as input clock TCLK, in Test mode.", 4 XOUT "Crystal Buffer Output Pin. Connects to a crystal only. When a Can Oscillator is used or in test mode, this pin is kept unconnected.", 6 S0 (in) "Clock Bank Selection Bits. These control the clock frequency that will be present on the outputs of the bank of buffers. See table on page one for frequency codes and selection values.", 7 S1 (in) "Clock Bank Selection Bits. These control the clock frequency that will be present on the outputs of the bank of buffers. See table on page one for frequency codes and selection values.", 8 GOOD# (out) "When his output signal is a logic low level, it indicates that the output clocks of the bank are locked to the input reference clock. This output is latched.", 10 IA0 (in) "SMBus Address Selection Input Pins. See Table 3 on page 3.", 11 IA1 (in) "SMBus Address Selection Input Pins. See Table 3 on page 3.", 12 IA2 (in) "SMBus Address Selection Input Pins. See Table 3 on page 3.", 14 OE (in) "Output Enable for Clock Bank. Causes the CLK (0:4) output clocks to be in a three-state condition when driven to a logic low level.", 15 SSCG# (in) "Spread Spectrum Clock Generator. Enables Spread Spectrum clock modulation when at a logic low level, see Spread Spectrum Clocking on page 6.", 18 CLK4 (hiz) "A bank of five XINx1, XINx2, XINx3 and XINx4 output clocks.", 19 CLK3 (hiz) "A bank of five XINx1, XINx2, XINx3 and XINx4 output clocks.", 22 CLK2 (hiz) "A bank of five XINx1, XINx2, XINx3 and XINx4 output clocks.", 23 CLK1 (hiz) "A bank of five XINx1, XINx2, XINx3 and XINx4 output clocks.", 24 CLK0 (hiz) "A bank of five XINx1, XINx2, XINx3 and XINx4 output clocks.", 27 SCLK (in) "Clock for the Internal SMBus Circuitry. See Table 3 on page 3.", 28 SDATA (io) "Data for the Internal SMBus Circuitry. See Table 3 on page 3."
part B pins: 2 VDD (power) "Power supply for internal core logic.", 5 VSS (power) "Ground pins for the device.", 9 VSS (power) "Ground pins for the device.", 13 VDDA (power) "Power for Internal Analog Circuitry. This supply should have a separately decoupled current source from VDD.", 16 VSS (power) "Ground pins for the device.", 17 VDDA (power) "Power for Internal Analog Circuitry. This supply should have a separately decoupled current source from VDD.", 20 VDDP (power) "3.3V common power supply pin for all PCI clocks CLK (0:4).", 21 VSS (power) "Ground pins for the device.", 25 VDDP (power) "3.3V common power supply pin for all PCI clocks CLK (0:4).", 26 VSS (power) "Ground pins for the device."

## IMIC9531CTT
designator U?
PCIX I/O System Clock Generator with EMI Control Features, 3.3 V, 25 to 133.3 MHz Output, 0 to 70 degC, 28-pin SOP, Tape and Reel; Manufacturer: Silicon Labs; PartNumber: IMIC9531CTT; Output Format: LVCMOS; Phase Jitter (RMS): > 1 ps; Reference Inputs: 1; VDD: 3.3 V; Sub-Family: Clock Generators; DatasheetVersion: Rev. *E; PackageReference: TSSOP-28; PackageDescription: 28-Pin Thin Shrink Small-Outline Package, Body 9.7 x 4.4 mm, Pitch 0.65 mm; Output Frequency (MHz): 25 to 133.3; Packing: Tape and Reel; Mounting Technology: Surface Mount; Code_JEDEC: MO-153; ComponentLink1Description: Manufacturer URL; ComponentLink1URL: http://www.silabs.com/; ComponentLink2Description: Datasheet; ComponentLink2URL: http://www.silabs.com/Support%20Documents/TechnicalDocs/C9531.pdf; ComponentLink3Description: Package Specification; ComponentLink3URL: http://www.silabs.com/Support%20Documents/TechnicalDocs/CY2SSTV855.pdf
footprint SLAB-TSSOP-28_N (SOP, 28-Leads, Body 9.8x4.5mm, Pitch 0.65mm, IPC Medium Density)
footprint SLAB-TSSOP-28_L (SOP, 28-Leads, Body 9.8x4.5mm, Pitch 0.65mm, IPC High Density)
footprint SLAB-TSSOP-28_M (SOP, 28-Leads, Body 9.8x4.5mm, Pitch 0.65mm, IPC Low Density)
part A pins: 1 REF (hiz) "Buffered inverted outputs of the signal applied at Xin, typically 33.33 or 25.0 MHz.", 3 XIN (in) "Crystal Buffer Input Pin. Connects to a crystal, or an external clock source. Serves as input clock TCLK, in Test mode.", 4 XOUT "Crystal Buffer Output Pin. Connects to a crystal only. When a Can Oscillator is used or in test mode, this pin is kept unconnected.", 6 S0 (in) "Clock Bank Selection Bits. These control the clock frequency that will be present on the outputs of the bank of buffers. See table on page one for frequency codes and selection values.", 7 S1 (in) "Clock Bank Selection Bits. These control the clock frequency that will be present on the outputs of the bank of buffers. See table on page one for frequency codes and selection values.", 8 GOOD# (out) "When his output signal is a logic low level, it indicates that the output clocks of the bank are locked to the input reference clock. This output is latched.", 10 IA0 (in) "SMBus Address Selection Input Pins. See Table 3 on page 3.", 11 IA1 (in) "SMBus Address Selection Input Pins. See Table 3 on page 3.", 12 IA2 (in) "SMBus Address Selection Input Pins. See Table 3 on page 3.", 14 OE (in) "Output Enable for Clock Bank. Causes the CLK (0:4) output clocks to be in a three-state condition when driven to a logic low level.", 15 SSCG# (in) "Spread Spectrum Clock Generator. Enables Spread Spectrum clock modulation when at a logic low level, see Spread Spectrum Clocking on page 6.", 18 CLK4 (hiz) "A bank of five XINx1, XINx2, XINx3 and XINx4 output clocks.", 19 CLK3 (hiz) "A bank of five XINx1, XINx2, XINx3 and XINx4 output clocks.", 22 CLK2 (hiz) "A bank of five XINx1, XINx2, XINx3 and XINx4 output clocks.", 23 CLK1 (hiz) "A bank of five XINx1, XINx2, XINx3 and XINx4 output clocks.", 24 CLK0 (hiz) "A bank of five XINx1, XINx2, XINx3 and XINx4 output clocks.", 27 SCLK (in) "Clock for the Internal SMBus Circuitry. See Table 3 on page 3.", 28 SDATA (io) "Data for the Internal SMBus Circuitry. See Table 3 on page 3."
part B pins: 2 VDD (power) "Power supply for internal core logic.", 5 VSS (power) "Ground pins for the device.", 9 VSS (power) "Ground pins for the device.", 13 VDDA (power) "Power for Internal Analog Circuitry. This supply should have a separately decoupled current source from VDD.", 16 VSS (power) "Ground pins for the device.", 17 VDDA (power) "Power for Internal Analog Circuitry. This supply should have a separately decoupled current source from VDD.", 20 VDDP (power) "3.3V common power supply pin for all PCI clocks CLK (0:4).", 21 VSS (power) "Ground pins for the device.", 25 VDDP (power) "3.3V common power supply pin for all PCI clocks CLK (0:4).", 26 VSS (power) "Ground pins for the device."

## IMIC9531CY
designator U?
PCIX I/O System Clock Generator with EMI Control Features, 3.3 V, 25 to 133.3 MHz Output, 0 to 70 degC, 28-pin SOP; Manufacturer: Silicon Labs; PartNumber: IMIC9531CY; Output Format: LVCMOS; Reference Inputs: 1; VDD: 3.3 V; Sub-Family: Clock Generators; DatasheetVersion: Rev. *E; PackageReference: SSOP-28; PackageDescription: 28-Pin Shrink Small-Outline Package, Body 10.2 x 5.3 mm, Pitch 0.65 mm; Output Frequency (MHz): 25 to 133.3; Mounting Technology: Surface Mount; ComponentLink1Description: Manufacturer URL; ComponentLink1URL: http://www.silabs.com/; ComponentLink2Description: Datasheet; ComponentLink2URL: http://www.silabs.com/Support%20Documents/TechnicalDocs/C9531.pdf; ComponentLink3Description: Package Specification; ComponentLink3URL: http://www.silabs.com/Support%20Documents/TechnicalDocs/W256.pdf
footprint SLAB-SSOP-28_N (SOP, 28-Leads, Body 10.4x5.6mm, Pitch 0.65mm, IPC Medium Density)
footprint SLAB-SSOP-28_L (SOP, 28-Leads, Body 10.4x5.6mm, Pitch 0.65mm, IPC High Density)
footprint SLAB-SSOP-28_M (SOP, 28-Leads, Body 10.4x5.6mm, Pitch 0.65mm, IPC Low Density)
part A pins: 1 REF (hiz) "Buffered inverted outputs of the signal applied at Xin, typically 33.33 or 25.0 MHz.", 3 XIN (in) "Crystal Buffer Input Pin. Connects to a crystal, or an external clock source. Serves as input clock TCLK, in Test mode.", 4 XOUT "Crystal Buffer Output Pin. Connects to a crystal only. When a Can Oscillator is used or in test mode, this pin is kept unconnected.", 6 S0 (in) "Clock Bank Selection Bits. These control the clock frequency that will be present on the outputs of the bank of buffers. See table on page one for frequency codes and selection values.", 7 S1 (in) "Clock Bank Selection Bits. These control the clock frequency that will be present on the outputs of the bank of buffers. See table on page one for frequency codes and selection values.", 8 GOOD# (out) "When his output signal is a logic low level, it indicates that the output clocks of the bank are locked to the input reference clock. This output is latched.", 10 IA0 (in) "SMBus Address Selection Input Pins. See Table 3 on page 3.", 11 IA1 (in) "SMBus Address Selection Input Pins. See Table 3 on page 3.", 12 IA2 (in) "SMBus Address Selection Input Pins. See Table 3 on page 3.", 14 OE (in) "Output Enable for Clock Bank. Causes the CLK (0:4) output clocks to be in a three-state condition when driven to a logic low level.", 15 SSCG# (in) "Spread Spectrum Clock Generator. Enables Spread Spectrum clock modulation when at a logic low level, see Spread Spectrum Clocking on page 6.", 18 CLK4 (hiz) "A bank of five XINx1, XINx2, XINx3 and XINx4 output clocks.", 19 CLK3 (hiz) "A bank of five XINx1, XINx2, XINx3 and XINx4 output clocks.", 22 CLK2 (hiz) "A bank of five XINx1, XINx2, XINx3 and XINx4 output clocks.", 23 CLK1 (hiz) "A bank of five XINx1, XINx2, XINx3 and XINx4 output clocks.", 24 CLK0 (hiz) "A bank of five XINx1, XINx2, XINx3 and XINx4 output clocks.", 27 SCLK (in) "Clock for the Internal SMBus Circuitry. See Table 3 on page 3.", 28 SDATA (io) "Data for the Internal SMBus Circuitry. See Table 3 on page 3."
part B pins: 2 VDD (power) "Power supply for internal core logic.", 5 VSS (power) "Ground pins for the device.", 9 VSS (power) "Ground pins for the device.", 13 VDDA (power) "Power for Internal Analog Circuitry. This supply should have a separately decoupled current source from VDD.", 16 VSS (power) "Ground pins for the device.", 17 VDDA (power) "Power for Internal Analog Circuitry. This supply should have a separately decoupled current source from VDD.", 20 VDDP (power) "3.3V common power supply pin for all PCI clocks CLK (0:4).", 21 VSS (power) "Ground pins for the device.", 25 VDDP (power) "3.3V common power supply pin for all PCI clocks CLK (0:4).", 26 VSS (power) "Ground pins for the device."

## IMIC9531CYT
designator U?
PCIX I/O System Clock Generator with EMI Control Features, 3.3 V, 25 to 133.3 MHz Output, 0 to 70 degC, 28-pin SOP, Tape and Reel; Manufacturer: Silicon Labs; PartNumber: IMIC9531CYT; Output Format: LVCMOS; Phase Jitter (RMS): > 1 ps; Reference Inputs: 1; VDD: 3.3 V; Sub-Family: Clock Generators; DatasheetVersion: Rev. *E; PackageReference: SSOP-28; PackageDescription: 28-Pin Shrink Small-Outline Package, Body 10.2 x 5.3 mm, Pitch 0.65 mm; Output Frequency (MHz): 25 to 133.3; Packing: Tape and Reel; Mounting Technology: Surface Mount; ComponentLink1Description: Manufacturer URL; ComponentLink1URL: http://www.silabs.com/; ComponentLink2Description: Datasheet; ComponentLink2URL: http://www.silabs.com/Support%20Documents/TechnicalDocs/C9531.pdf; ComponentLink3Description: Package Specification; ComponentLink3URL: http://www.silabs.com/Support%20Documents/TechnicalDocs/W256.pdf
footprint SLAB-SSOP-28_N (SOP, 28-Leads, Body 10.4x5.6mm, Pitch 0.65mm, IPC Medium Density)
footprint SLAB-SSOP-28_L (SOP, 28-Leads, Body 10.4x5.6mm, Pitch 0.65mm, IPC High Density)
footprint SLAB-SSOP-28_M (SOP, 28-Leads, Body 10.4x5.6mm, Pitch 0.65mm, IPC Low Density)
part A pins: 1 REF (hiz) "Buffered inverted outputs of the signal applied at Xin, typically 33.33 or 25.0 MHz.", 3 XIN (in) "Crystal Buffer Input Pin. Connects to a crystal, or an external clock source. Serves as input clock TCLK, in Test mode.", 4 XOUT "Crystal Buffer Output Pin. Connects to a crystal only. When a Can Oscillator is used or in test mode, this pin is kept unconnected.", 6 S0 (in) "Clock Bank Selection Bits. These control the clock frequency that will be present on the outputs of the bank of buffers. See table on page one for frequency codes and selection values.", 7 S1 (in) "Clock Bank Selection Bits. These control the clock frequency that will be present on the outputs of the bank of buffers. See table on page one for frequency codes and selection values.", 8 GOOD# (out) "When his output signal is a logic low level, it indicates that the output clocks of the bank are locked to the input reference clock. This output is latched.", 10 IA0 (in) "SMBus Address Selection Input Pins. See Table 3 on page 3.", 11 IA1 (in) "SMBus Address Selection Input Pins. See Table 3 on page 3.", 12 IA2 (in) "SMBus Address Selection Input Pins. See Table 3 on page 3.", 14 OE (in) "Output Enable for Clock Bank. Causes the CLK (0:4) output clocks to be in a three-state condition when driven to a logic low level.", 15 SSCG# (in) "Spread Spectrum Clock Generator. Enables Spread Spectrum clock modulation when at a logic low level, see Spread Spectrum Clocking on page 6.", 18 CLK4 (hiz) "A bank of five XINx1, XINx2, XINx3 and XINx4 output clocks.", 19 CLK3 (hiz) "A bank of five XINx1, XINx2, XINx3 and XINx4 output clocks.", 22 CLK2 (hiz) "A bank of five XINx1, XINx2, XINx3 and XINx4 output clocks.", 23 CLK1 (hiz) "A bank of five XINx1, XINx2, XINx3 and XINx4 output clocks.", 24 CLK0 (hiz) "A bank of five XINx1, XINx2, XINx3 and XINx4 output clocks.", 27 SCLK (in) "Clock for the Internal SMBus Circuitry. See Table 3 on page 3.", 28 SDATA (io) "Data for the Internal SMBus Circuitry. See Table 3 on page 3."
part B pins: 2 VDD (power) "Power supply for internal core logic.", 5 VSS (power) "Ground pins for the device.", 9 VSS (power) "Ground pins for the device.", 13 VDDA (power) "Power for Internal Analog Circuitry. This supply should have a separately decoupled current source from VDD.", 16 VSS (power) "Ground pins for the device.", 17 VDDA (power) "Power for Internal Analog Circuitry. This supply should have a separately decoupled current source from VDD.", 20 VDDP (power) "3.3V common power supply pin for all PCI clocks CLK (0:4).", 21 VSS (power) "Ground pins for the device.", 25 VDDP (power) "3.3V common power supply pin for all PCI clocks CLK (0:4).", 26 VSS (power) "Ground pins for the device."